# Altium schematic symbol library Guitar_Effects.SchLib: 8 symbols
Pins are listed as number, name and electrical type; pins without a type are passive.

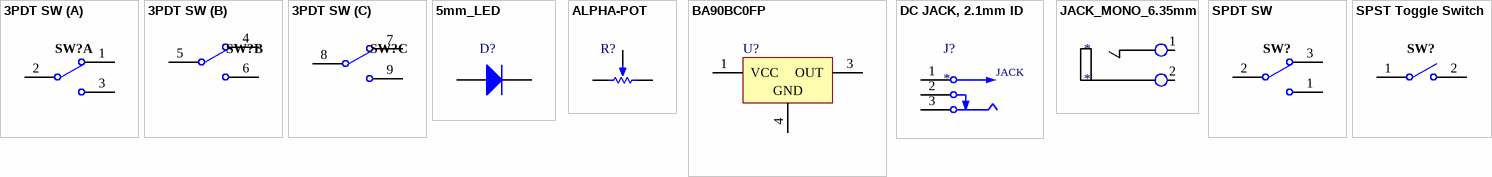
[diagram p0: symbols 3PDT SW to SPST Toggle Switch]

## 3PDT SW
designator SW?
footprint 3PDT (FS57003PLT2B2M1QEH)
part A pins: 1, 2, 3
part B pins: 4, 5, 6
part C pins: 7, 8, 9

## 5mm_LED
designator D?
Manufacturer PN: TLHG6405
footprint 3mm_diode
footprint 3mm_diode
pins: 1 A, 2 K

## ALPHA-POT
designator R?
Manufacturer PN: RV09AF-40-20K-B50K; Manufacturer: Alpha; URL: http://www.taydaelectronics.com/potentiometer-variable-resistors/rotary-potentiometer/linear/b50k-ohm-linear-taper-potentiometer-round-knurled-plastic-shaft-pcb-9mm.html
footprint ALPHA_POT
pins: 1 CCW, 2 WIPER, 3 CW

## BA90BC0FP
designator U?
LDO Voltage Regulators REG 1A 9V; URL: https://ca.mouser.com/productdetail/755-ba90bc0fp-e2
footprint BA90BC0FP-E2 (D-PAK, 4-Leads, Body 6.1x6.6mm, Pitch 2.29mm, Lead Span 9.7mm, IPC High Density)
pins: 1 VCC (power), 3 OUT (power), 4 GND (power)

## DC JACK, 2.1mm ID
designator J?
DC BARREL JACK, 2.1mm ID; URL: https://ca.mouser.com/productdetail/163-179ph-ex
footprint 163-179PH-EX (2.1mm ID barrel jack)
pins: 1, 2, 3
text: JACK

## JACK_MONO_6.35mm
designator *
footprint MONO_JUMPER
pins: 1, 2

## SPDT SW
designator SW?
footprint SPDT_JUMPER
pins: 1, 2, 3

## SPST Toggle Switch
designator SW?
footprint TOGGLE_SW_JUMPER
pins: 1, 2